# EAGLE library part LT1125 (library opamps)
LT1125: Quad low noise precision opamp (Linear Technology) ±15V, ±20mA, 30nA bias 140µV offset, 8MHz UGF, 5.5nV/rt(Hz) noise
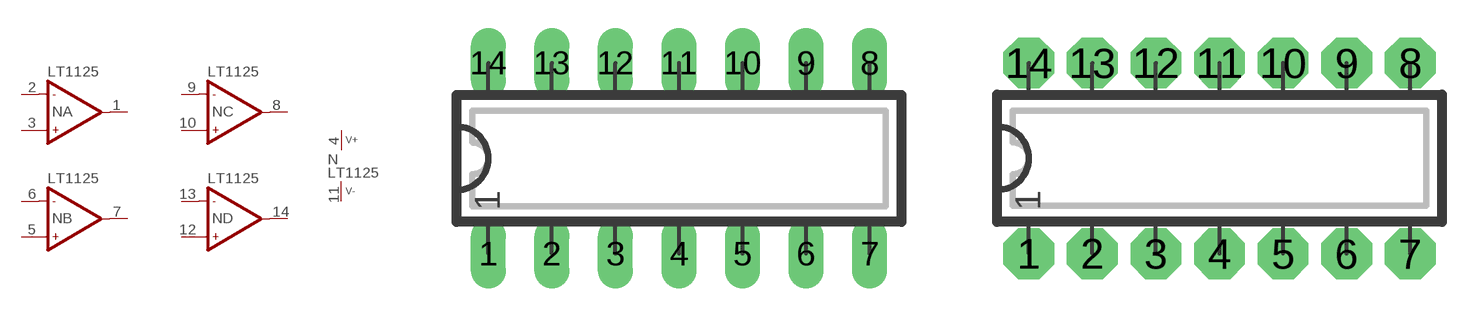
[diagram p225: symbol with the pads of DIP14L; footprints DIP14L, DIP14N]

Designator prefix N; gates A=OP-NAME B=OP-NAME C=OP-NAME D=OP-NAME P=V+-

## LT1125  [DIP14L]
1  A:OUT  out
2  A:IN-  in
3  A:IN+  in
4  P:V+  pwr
5  B:IN+  in
6  B:IN-  in
7  B:OUT  out
8  C:OUT  out
9  C:IN-  in
10  C:IN+  in
11  P:V-  pwr
12  D:IN+  in
13  D:IN-  in
14  D:OUT  out

## LT1125L  [DIP14L]
Pads as for DIP14L

## LT1125N  [DIP14N]
Pads as for DIP14L

## LT1125R  [DIP14R]
Pads as for DIP14L

## LT1125S  [SO16W]
1  A:OUT  out
2  A:IN-  in
3  A:IN+  in
4  P:V+  pwr
5  B:IN+  in
6  B:IN-  in
7  B:OUT  out
10  C:OUT  out
11  C:IN-  in
12  C:IN+  in
13  P:V-  pwr
14  D:IN+  in
15  D:IN-  in
16  D:OUT  out

## Footprint DIP14L (pad centres in mm)
DIP-14, long pads Standard IC package, 14 pins
drill 0.813 pad 1.397 long: 1 -7.62,-3.81; 2 -5.08,-3.81; 3 -2.54,-3.81; 4 0,-3.81; 5 2.54,-3.81; 6 5.08,-3.81; 7 7.62,-3.81; 8 7.62,3.81; 9 5.08,3.81; 10 2.54,3.81; 11 0,3.81; 12 -2.54,3.81; 13 -5.08,3.81; 14 -7.62,3.81

## Footprint DIP14N (pad centres in mm)
DIP-14 Standard IC package, 14 pins
drill 0.813 pad 2.032 octagon: 1 -7.62,-3.81; 2 -5.08,-3.81; 3 -2.54,-3.81; 4 0,-3.81; 5 2.54,-3.81; 6 5.08,-3.81; 7 7.62,-3.81; 8 7.62,3.81; 9 5.08,3.81; 10 2.54,3.81; 11 0,3.81; 12 -2.54,3.81; 13 -5.08,3.81; 14 -7.62,3.81

## Footprint DIP14R (pad centres in mm)
DIP-14, reduced pads Standard IC package, 14 pins
drill 0.813 pad 1.27 square: 1 -7.62,-3.81
drill 0.813 pad 1.397 square: 2 -5.08,-3.81; 3 -2.54,-3.81; 4 0,-3.81; 5 2.54,-3.81; 6 5.08,-3.81; 7 7.62,-3.81; 8 7.62,3.81; 9 5.08,3.81; 10 2.54,3.81; 11 0,3.81; 12 -2.54,3.81; 13 -5.08,3.81; 14 -7.62,3.81

## Footprint SO16W (pad centres in mm)
SO-16 wide, SMD SOIC IC package (0.3" wide), 16 pins
smd 0.635 x 1.778: 1 -4.445,-4.763; 2 -3.175,-4.763; 3 -1.905,-4.763; 4 -0.635,-4.763; 5 0.635,-4.763; 6 1.905,-4.763; 7 3.175,-4.763; 8 4.445,-4.763; 9 4.445,4.763; 10 3.175,4.763; 11 1.905,4.763; 12 0.635,4.763; 13 -0.635,4.763; 14 -1.905,4.763; 15 -3.175,4.763; 16 -4.445,4.763